# Altium schematic symbol library ICs.SchLib: 9 symbols
Pins are listed as number, name and electrical type; pins without a type are passive.

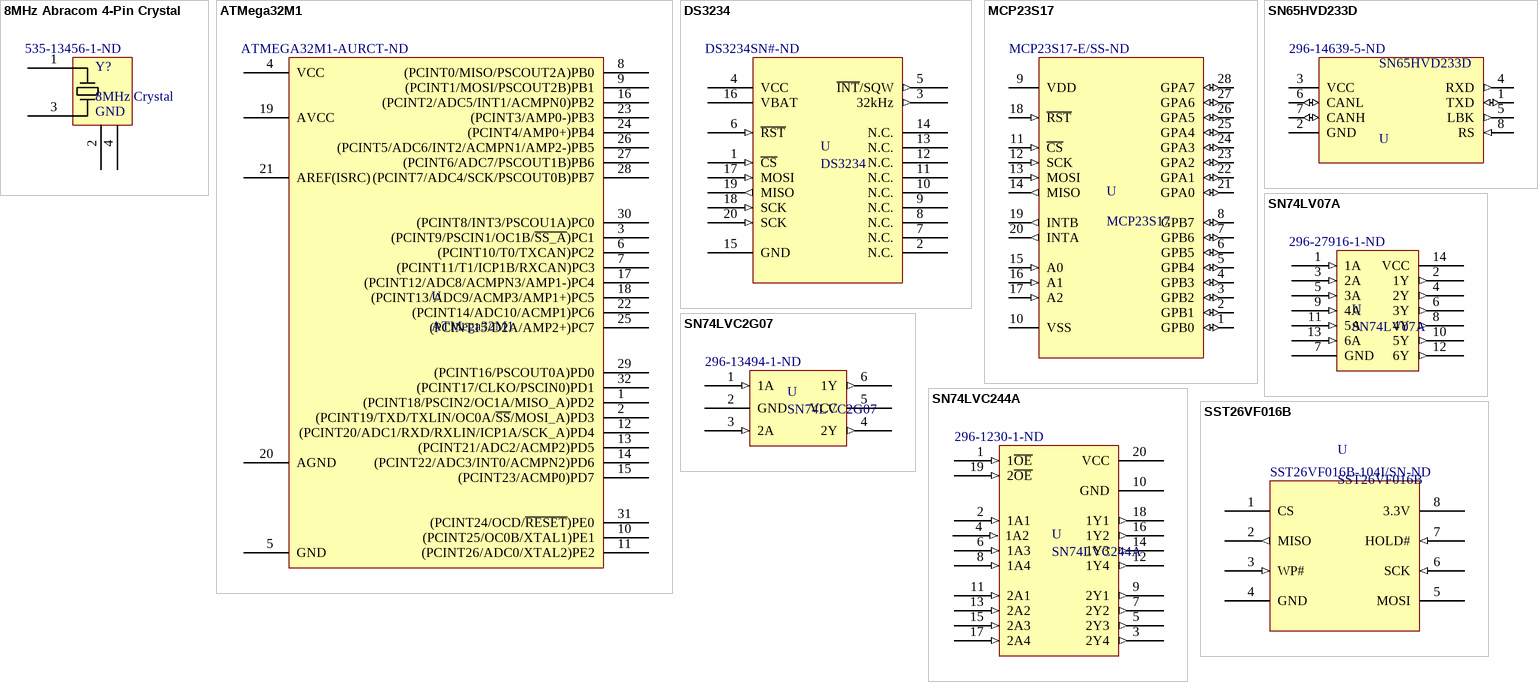
[diagram p0: symbols 8MHz Abracom 4-Pin Crystal to SST26VF016B]

## 8MHz Abracom 4-Pin Crystal
designator Y?, comment 8MHz Crystal  Supplier Part Number 1: 535-13456-1-ND
8MHz Abracom 4-pin crystal.; Supplier 1: Digi-Key
footprint OSCSC500X320X110-4N
pins: 1 IN, 2 5, 3 IN, 4
text: GND

## ATMega32M1
designator U  Supplier Part Number 1: ATMEGA32M1-AURCT-ND
Atmel 8-bit AVR microcontroller.; Supplier 1: Digi-Key
footprint QFP80P900X900X120-32N
pins: 1 (PCINT18/PSCIN2/OC1A/MISO_A)PD2, 2 (PCINT19/TXD/TXLIN/OC0A/~{SS}/MOSI_A)PD3, 3 (PCINT9/PSCIN1/OC1B/~{SS_A})PC1, 4 VCC, 5 GND, 6 (PCINT10/T0/TXCAN)PC2, 7 (PCINT11/T1/ICP1B/RXCAN)PC3, 8 (PCINT0/MISO/PSCOUT2A)PB0, 9 (PCINT1/MOSI/PSCOUT2B)PB1, 10 (PCINT25/OC0B/XTAL1)PE1, 11 (PCINT26/ADC0/XTAL2)PE2, 12 (PCINT20/ADC1/RXD/RXLIN/ICP1A/SCK_A)PD4, 13 (PCINT21/ADC2/ACMP2)PD5, 14 (PCINT22/ADC3/INT0/ACMPN2)PD6, 15 (PCINT23/ACMP0)PD7, 16 (PCINT2/ADC5/INT1/ACMPN0)PB2, 17 (PCINT12/ADC8/ACMPN3/AMP1-)PC4, 18 (PCINT13/ADC9/ACMP3/AMP1+)PC5, 19 AVCC, 20 AGND, 21 AREF(ISRC), 22 (PCINT14/ADC10/ACMP1)PC6, 23 (PCINT3/AMP0-)PB3, 24 (PCINT4/AMP0+)PB4, 25 (PCINT15/D2A/AMP2+)PC7, 26 (PCINT5/ADC6/INT2/ACMPN1/AMP2-)PB5, 27 (PCINT6/ADC7/PSCOUT1B)PB6, 28 (PCINT7/ADC4/SCK/PSCOUT0B)PB7, 29 (PCINT16/PSCOUT0A)PD0, 30 (PCINT8/INT3/PSCOU1A)PC0, 31 (PCINT24/OCD/~{RESET})PE0, 32 (PCINT17/CLKO/PSCIN0)PD1

## DS3234
designator U  Supplier Part Number 1: DS3234SN#-ND
SPI bus RTC with integrated crystal and SRAM; Supplier 1: Digi-Key
footprint SOIC127P1032X265-20N
pins: 1 ~{CS} (in), 2 N.C., 3 32kHz (out), 4 VCC (power), 5 ~{INT}/SQW (out), 6 ~{RST} (in), 7 N.C., 8 N.C., 9 N.C., 10 N.C., 11 N.C., 12 N.C., 13 N.C., 14 N.C., 15 GND (power), 16 VBAT (power), 17 MOSI (in), 18 SCK (in), 19 MISO (out), 20 SCK (in)

## MCP23S17
designator U  Supplier Part Number 1: MCP23S17-E/SS-ND
16 bit I/O expander with SPI interface.; Supplier 1: Digi-Key
footprint SOP65P780X200-28N
pins: 1 GPB0 (io), 2 GPB1 (io), 3 GPB2 (io), 4 GPB3 (io), 5 GPB4 (io), 6 GPB5 (io), 7 GPB6 (io), 8 GPB7 (io), 9 VDD (power), 10 VSS (power), 11 ~{CS} (in), 12 SCK (in), 13 MOSI (in), 14 MISO (out), 15 A0 (in), 16 A1 (in), 17 A2 (in), 18 ~{RST} (in), 19 INTB (out), 20 INTA (out), 21 GPA0 (io), 22 GPA1 (io), 23 GPA2 (io), 24 GPA3 (io), 25 GPA4 (io), 26 GPA5 (io), 27 GPA6 (io), 28 GPA7 (io)

## SN65HVD233D
designator U  Supplier Part Number 1: 296-14639-5-ND
3.3V CAN Transceiver with Standby Mode, Loop-back 8-SOIC -40 to 125; MF: Texas Instruments; MP: SN65HVD233D; Package: SOIC-8 Texas Instruments; Availability: Good; SnapEDA_Link: https://www.snapeda.com/parts/SN65HVD233D/Texas%20Instruments/view-part/?ref=snap; Price: 2.39 USD; Value: *; Supplier 1: Digi-Key
footprint SOIC8
footprint SOIC127P500X600-8N
pins: 1 TXD (io), 2 GND (power), 3 VCC (power), 4 RXD (out), 5 LBK (out), 6 CANL (io), 7 CANH (io), 8 RS (in)

## SN74LV07A
designator U  Supplier Part Number: 296-27916-1-ND
Six element 1-bit non-inverting open-drain buffer.; Supplier: Digi-Key
footprint SOP65P640X120-14N
pins: 1 1A (in), 2 1Y (out), 3 2A (in), 4 2Y (out), 5 3A (in), 6 3Y (out), 7 GND (power), 8 4Y (out), 9 4A (in), 10 5Y (out), 11 5A (in), 12 6Y (out), 13 6A (in), 14 VCC (power)

## SN74LVC2G07
designator U  Supplier Part Number 1: 296-13494-1-ND
Dual Non-Inverting Buffer; Supplier 1: Digi-Key
footprint SOT95P280X145-6N
pins: 1 1A (in), 2 GND (power), 3 2A (in), 4 2Y (out), 5 VCC (power), 6 1Y (out)

## SN74LVC244A
designator U  Supplier Part Number 1: 296-1230-1-ND
Octal buffer or driver with 3-state outputs.; Supplier 1: Digi-Key
footprint SOP65P650X440-20N
pins: 1 1~{OE} (in), 2 1A1 (in), 3 2Y4 (out), 4 1A2 (in), 5 2Y3 (out), 6 1A3 (in), 7 2Y2 (out), 8 1A4 (in), 9 2Y1 (out), 10 GND (power), 11 2A1 (in), 12 1Y4 (out), 13 2A2 (in), 14 1Y3 (out), 15 2A3 (in), 16 1Y2 (out), 17 2A4 (in), 18 1Y1 (out), 19 2~{OE} (in), 20 VCC (power)

## SST26VF016B
designator U  Supplier Part Number 1: SST26VF016B-104I/SN-ND
2.5V/3.0V 16 Mbit Serial Quad I/O (SQI) Flash Memory; ComponentLink1Description: SST25VF016B; ComponentLink1URL: https://www.digikey.ca/product-detail/en/microchip-technology/SST26VF016B-104I-SN/SST26VF016B-104I-SN-ND/5033651; Supplier 1: Digi-Key
footprint SOIC127P500X600-8N
pins: 1 CS, 2 MISO (out), 3 WP# (in), 4 GND (power), 5 MOSI, 6 SCK (in), 7 HOLD# (in), 8 3.3V (power)